# Altium integrated library Micron Memory Parallel NOR Flash.IntLib: 720 symbols (part 48 of 216)
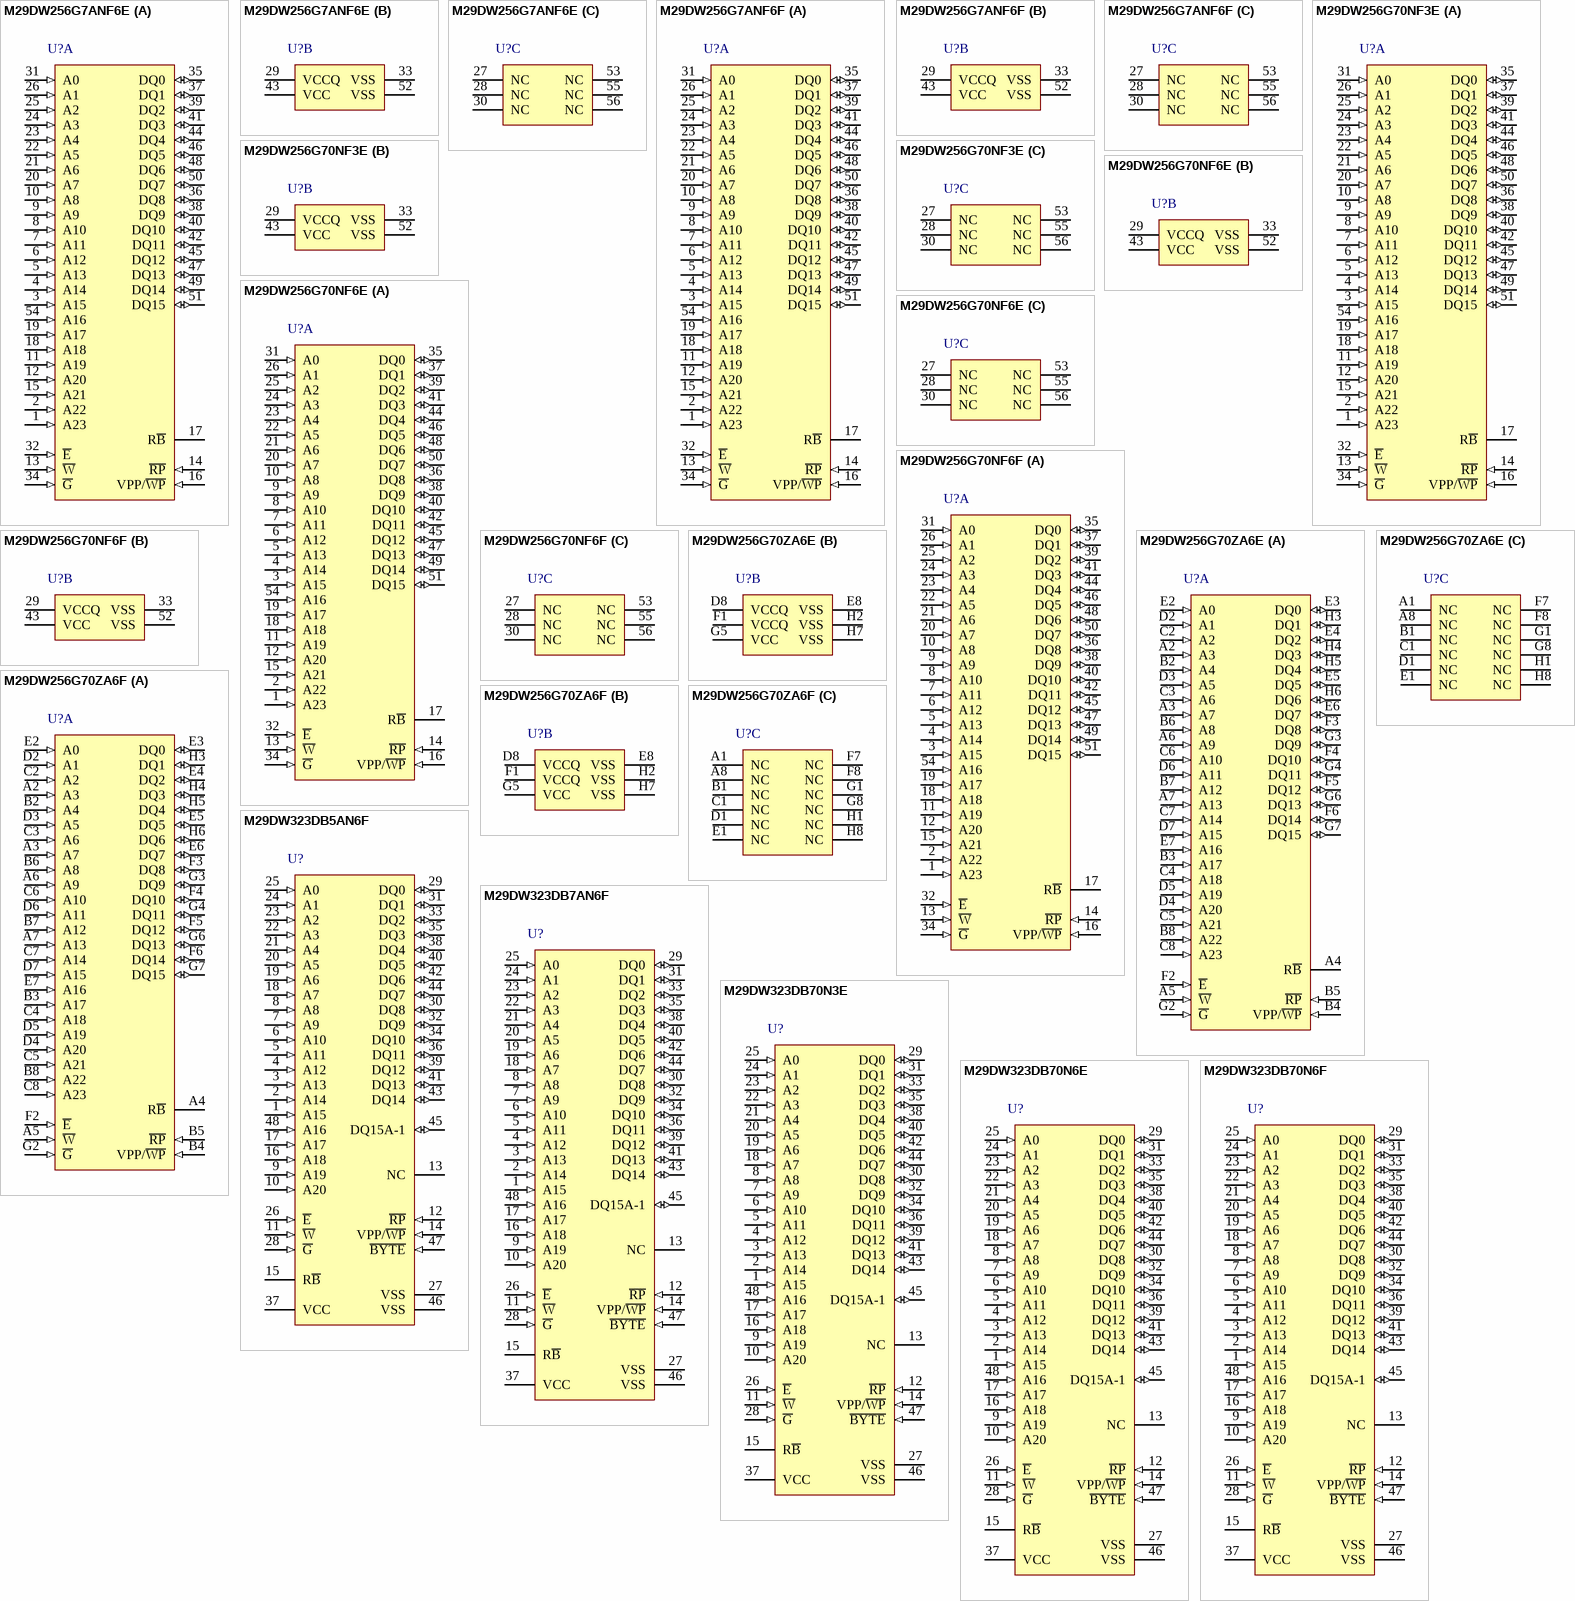
[diagram p201: symbols M29DW256G7ANF6E to M29DW323DB70N6F]

## M29DW256G7ANF6F
designator U?
256 Mb (x16) Automotive Parallel NOR Flash Memory, 70 ns, 2.7 to 3.6 V, 56-pin TSOP (N), Tape & Reel; Part Family: M29DW; Manufacturer: Micron; PartNumber: M29DW256G7ANF6F; Density: 256Mb; Op Temp: -40C to +85C; Speed: 70ns; Voltage: 2.7V-3.6V; DatasheetVersion: Rev. 03; PackageVersion: Rev. 3; PackageReference: MICT-NF-56; PackageDescription: 56-Pin TSOP, 18.4 X 14 mm, Pitch 0.5 mm; RoHS: Yes; Width: x16; Mounting Technology: Surface Mount; ComponentLink1Description: Manufacturer URL; ComponentLink1URL: http://www.micron.com/; ComponentLink2Description: Datasheet; ComponentLink2URL: http://www.micron.com/~/media/Documents/Products/Data%20Sheet/NOR%20Flash/Parallel/M29DW/M29DW256G.pdf; ComponentLink3Description: Package Specification; ComponentLink3URL: http://www.micron.com/~/media/Documents/Products/Data%20Sheet/NOR%20Flash/Parallel/M29DW/M29DW127G.pdf
footprint MICT-NF-56_N (SOP, 56-Leads, Body 18.5x14.1mm, Pitch 0.5mm, IPC Medium Density)
part A pins: 1 A23 (in) "Address input: The Address Input selects the cells in the memory array to access during bus read operations. During bus write operations they control the commands sent to the command interface of the program/erase controller.", 2 A22 (in) "Address input: The Address Input selects the cells in the memory array to access during bus read operations. During bus write operations they control the commands sent to the command interface of the program/erase controller.", 3 A15 (in) "Address input: The Address Input selects the cells in the memory array to access during bus read operations. During bus write operations they control the commands sent to the command interface of the program/erase controller.", 4 A14 (in) "Address input: The Address Input selects the cells in the memory array to access during bus read operations. During bus write operations they control the commands sent to the command interface of the program/erase controller.", 5 A13 (in) "Address input: The Address Input selects the cells in the memory array to access during bus read operations. During bus write operations they control the commands sent to the command interface of the program/erase controller.", 6 A12 (in) "Address input: The Address Input selects the cells in the memory array to access during bus read operations. During bus write operations they control the commands sent to the command interface of the program/erase controller.", 7 A11 (in) "Address input: The Address Input selects the cells in the memory array to access during bus read operations. During bus write operations they control the commands sent to the command interface of the program/erase controller.", 8 A10 (in) "Address input: The Address Input selects the cells in the memory array to access during bus read operations. During bus write operations they control the commands sent to the command interface of the program/erase controller.", 9 A9 (in) "Address input: The Address Input selects the cells in the memory array to access during bus read operations. During bus write operations they control the commands sent to the command interface of the program/erase controller.", 10 A8 (in) "Address input: The Address Input selects the cells in the memory array to access during bus read operations. During bus write operations they control the commands sent to the command interface of the program/erase controller.", 11 A19 (in) "Address input: The Address Input selects the cells in the memory array to access during bus read operations. During bus write operations they control the commands sent to the command interface of the program/erase controller.", 12 A20 (in) "Address input: The Address Input selects the cells in the memory array to access during bus read operations. During bus write operations they control the commands sent to the command interface of the program/erase controller.", 13 ~{W} (in) "Write enable: The write enable pin, W\, controls the bus write operation of the memory’s command interface.", 14 ~{RP} (in) "Reset: The reset pin can be used to apply a hardware reset to the memory.", 15 A21 (in) "The Address Input select the cells in the memory array to access during bus read operations. During bus write operations they control the commands sent to the command interface of the program/erase controller.", 16 VPP/~{WP} (in) "VPP/write protect: The VPP/write protect pin provides two functions. The VPPH function allows the memory to use an external high voltage power supply to reduce the time required for program operations. This is achieved by (See Datasheet)", 17 R~{B} (hiz) "Ready/busy output: The ready/busy pin is an open-drain output that can be used to identify when the device is performing a program or erase operation. During program or erase operations ready/busy is Low, VOL (see Table 16: (See Datasheet)", 18 A18 (in) "Address input: The Address Input selects the cells in the memory array to access during bus read operations. During bus write operations they control the commands sent to the command interface of the program/erase controller.", 19 A17 (in) "Address input: The Address Input selects the cells in the memory array to access during bus read operations. During bus write operations they control the commands sent to the command interface of the program/erase controller.", 20 A7 (in) "Address input: The Address Input selects the cells in the memory array to access during bus read operations. During bus write operations they control the commands sent to the command interface of the program/erase controller.", 21 A6 (in) "Address input: The Address Input selects the cells in the memory array to access during bus read operations. During bus write operations they control the commands sent to the command interface of the program/erase controller.", 22 A5 (in) "Address input: The Address Input selects the cells in the memory array to access during bus read operations. During bus write operations they control the commands sent to the command interface of the program/erase controller.", 23 A4 (in) "Address input: The Address Input selects the cells in the memory array to access during bus read operations. During bus write operations they control the commands sent to the command interface of the program/erase controller.", 24 A3 (in) "Address input: The Address Input selects the cells in the memory array to access during bus read operations. During bus write operations they control the commands sent to the command interface of the program/erase controller.", 25 A2 (in) "Address input: The Address Input selects the cells in the memory array to access during bus read operations. During bus write operations they control the commands sent to the command interface of the program/erase controller.", 26 A1 (in) "Address input: The Address Input selects the cells in the memory array to access during bus read operations. During bus write operations they control the commands sent to the command interface of the program/erase controller.", 31 A0 (in) "Address input: The Address Input selects the cells in the memory array to access during bus read operations. During bus write operations they control the commands sent to the command interface of the program/erase controller.", 32 ~{E} (in) "Chip enable: The chip enable pin, E\, activates the memory, allowing bus read and bus write operations to be performed. When chip enable is High, VIH, all other pins are ignored.", 34 ~{G} (in) "Output enable: The output enable pin, G\, controls the bus read operation of the memory.", 35 DQ0 (io) "Data input/output: The data I/O Output the data stored at the selected address during a bus read operation. During bus write operations they represent the commands sent to the command interface of the internal state machine. (See Datasheet)", 36 DQ8 (io) "Data input/output: The data I/O Output the data stored at the selected address during a bus read operation. During bus write operations they represent the commands sent to the command interface of the internal state machine. (See Datasheet)", 37 DQ1 (io) "Data input/output: The data I/O Output the data stored at the selected address during a bus read operation. During bus write operations they represent the commands sent to the command interface of the internal state machine. (See Datasheet)", 38 DQ9 (io) "Data input/output: The data I/O Output the data stored at the selected address during a bus read operation. During bus write operations they represent the commands sent to the command interface of the internal state machine. (See Datasheet)", 39 DQ2 (io) "Data input/output: The data I/O Output the data stored at the selected address during a bus read operation. During bus write operations they represent the commands sent to the command interface of the internal state machine. (See Datasheet)", 40 DQ10 (io) "Data input/output: The data I/O Output the data stored at the selected address during a bus read operation. During bus write operations they represent the commands sent to the command interface of the internal state machine. (See Datasheet)", 41 DQ3 (io) "Data input/output: The data I/O Output the data stored at the selected address during a bus read operation. During bus write operations they represent the commands sent to the command interface of the internal state machine. (See Datasheet)", 42 DQ11 (io) "Data input/output: The data I/O Output the data stored at the selected address during a bus read operation. During bus write operations they represent the commands sent to the command interface of the internal state machine. (See Datasheet)", 44 DQ4 (io) "Data input/output: The data I/O Output the data stored at the selected address during a bus read operation. During bus write operations they represent the commands sent to the command interface of the internal state machine. (See Datasheet)", 45 DQ12 (io) "Data input/output: The data I/O Output the data stored at the selected address during a bus read operation. During bus write operations they represent the commands sent to the command interface of the internal state machine. (See Datasheet)", 46 DQ5 (io) "Data input/output: The data I/O Output the data stored at the selected address during a bus read operation. During bus write operations they represent the commands sent to the command interface of the internal state machine. (See Datasheet)", 47 DQ13 (io) "The data I/O outputs the data stored at the selected address during a bus read operation. During bus write operations they represent the commands sent to the command interface of the internal state machine. During bus write (See Datasheet)", 48 DQ6 (io) "Data input/output: The data I/O Output the data stored at the selected address during a bus read operation. During bus write operations they represent the commands sent to the command interface of the internal state machine. (See Datasheet)", 49 DQ14 (io) "Data input/output: The data I/O Output the data stored at the selected address during a bus read operation. During bus write operations they represent the commands sent to the command interface of the internal state machine. (See Datasheet)", 50 DQ7 (io) "Data input/output: The data I/O Output the data stored at the selected address during a bus read operation. During bus write operations they represent the commands sent to the command interface of the internal state machine. (See Datasheet)", 51 DQ15 (io) "Data input/output: The data I/O Output the data stored at the selected address during a bus read operation. During bus write operations they represent the commands sent to the command interface of the internal state machine. (See Datasheet)", 54 A16 (in) "Address input: The Address Input selects the cells in the memory array to access during bus read operations. During bus write operations they control the commands sent to the command interface of the program/erase controller."
part B pins: 29 VCCQ (power) "VCCQ input/output supply voltage: VCCQ provides the power supply to the I/O pins and enables all outputs to be powered independently from VCC.", 33 VSS (power) "Vss ground: VSS is the reference for all voltage measurements. The device features two VSS pins both of which must be connected to the system ground.", 43 VCC (power) "VCC supply voltage: VCC provides the power supply for all operations (read, program and erase).", 52 VSS (power) "Vss ground: VSS is the reference for all voltage measurements. The device features two VSS pins both of which must be connected to the system ground."
part C pins: 27 NC "Not connected", 28 NC "Not connected", 30 NC "Not connected", 53 NC "Not connected", 55 NC "Not connected", 56 NC "Not connected"